# Altium schematic symbol library HC 05.SchLib: 1 symbol
Pins are listed as number, name and electrical type; pins without a type are passive.

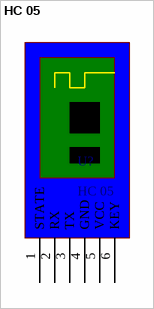
[diagram p0: symbol HC 05]

## HC 05
designator U?
footprint HC05
pins: 1 STATE, 2 RX, 3 TX, 4 GND, 5 VCC, 6 KEY